# EAGLE library part HUM_PRO (library hum_pro)
Amplified Hum 900 PRO RF chip manufactured by Linx.
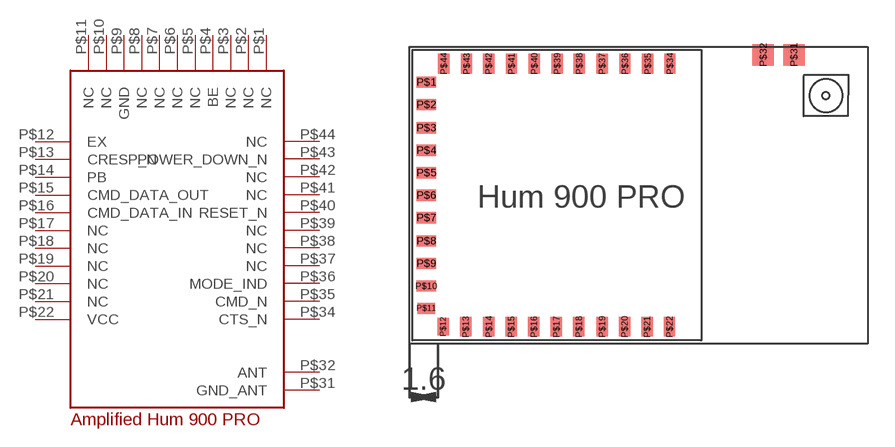
[diagram p0: symbol with the pads of HUM_PRO; footprint HUM_PRO]

Designator prefix -

## HUM_PRO  [HUM_PRO]
P$1  NC
P$2  NC
P$3  NC
P$4  BE
P$5  NC
P$6  NC
P$7  NC
P$8  NC
P$9  GND
P$10  NC
P$11  NC
P$12  EX
P$13  CRESP_N
P$14  PB
P$15  CMD_DATA_OUT
P$16  CMD_DATA_IN
P$17  NC
P$18  NC
P$19  NC
P$20  NC
P$21  NC
P$22  VCC
P$31  GND_ANT
P$32  ANT
P$34  CTS_N
P$35  CMD_N
P$36  MODE_IND
P$37  NC
P$38  NC
P$39  NC
P$40  RESET_N
P$41  NC
P$42  NC
P$43  POWER_DOWN_N
P$44  NC

## Footprint HUM_PRO (pad centres in mm)
smd 1.1 x 0.635: P$1 0.945,14.67; P$2 0.945,13.41; P$3 0.945,12.105; P$4 0.945,10.845; P$5 0.945,9.585; P$6 0.945,8.325; P$7 0.945,7.065; P$8 0.945,5.76; P$9 0.945,4.5; P$10 0.945,3.24
smd 1 x 0.635: P$11 0.945,1.98
smd 0.635 x 1: P$12 1.9,0.95
smd 0.635 x 1.1: P$13 3.15,0.95; P$14 4.45,0.95; P$15 5.7,0.95; P$16 6.975,0.95; P$17 8.235,0.95; P$18 9.495,0.95; P$19 10.8,0.95; P$20 12.06,0.95; P$21 13.32,0.95; P$22 14.58,0.95; P$34 14.6,15.71; P$35 13.36,15.71; P$36 12.08,15.71; P$37 10.8,15.71; P$38 9.52,15.71; P$39 8.28,15.71; P$40 7,15.71; P$41 5.72,15.71; P$42 4.44,15.71; P$43 3.2,15.71; P$44 1.92,15.71
smd 1.2 x 1.2: P$31 21.56,16.2; P$32 19.84,16.2